# Altium schematic symbol library 1803523.SchLib: 1 symbol
Pins are listed as number, name and electrical type; pins without a type are passive.

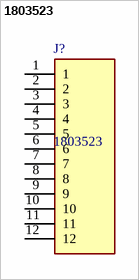
[diagram p0: symbol 1803523]

## 1803523
designator J?
PCB header, nominal cross section: 1.5 mm?, color: green, nominal current: 8 A, rated voltage (III/2): 160 V, contact surface: Tin, type of contact: Male connector, Number of potentials: 12, Number of rows: 1, Number of positions per row: 12, number of connections: 12, product range: MCV 1,5/..-G, pitch: 3.81 mm, mounting: Wave soldering, pin layout: Linear pinning, solder pin [P]: 3.4 mm, Stecksystem: MINI COMBICON, Locking: without, type of packaging: packed in cardboard; Manufacturer_Name: Phoenix Contact; Geometry.Height: 9.35mm; TME Electronic Components Part Number: *; TME Electronic Components Price/Stock: *; Manufacturer_Part_Number: 1803523; Datasheet Link: https://www.phoenixcontact.com/de-de/produkte/leiterplattengrundleiste-mcv-1512-g-381-1803523
footprint 1803523
pins: 1, 2, 3, 4, 5, 6, 7, 8, 9, 10, 11, 12